# EAGLE library part TH58NVG3S0HBAI4 (library circuit_tree)
IC
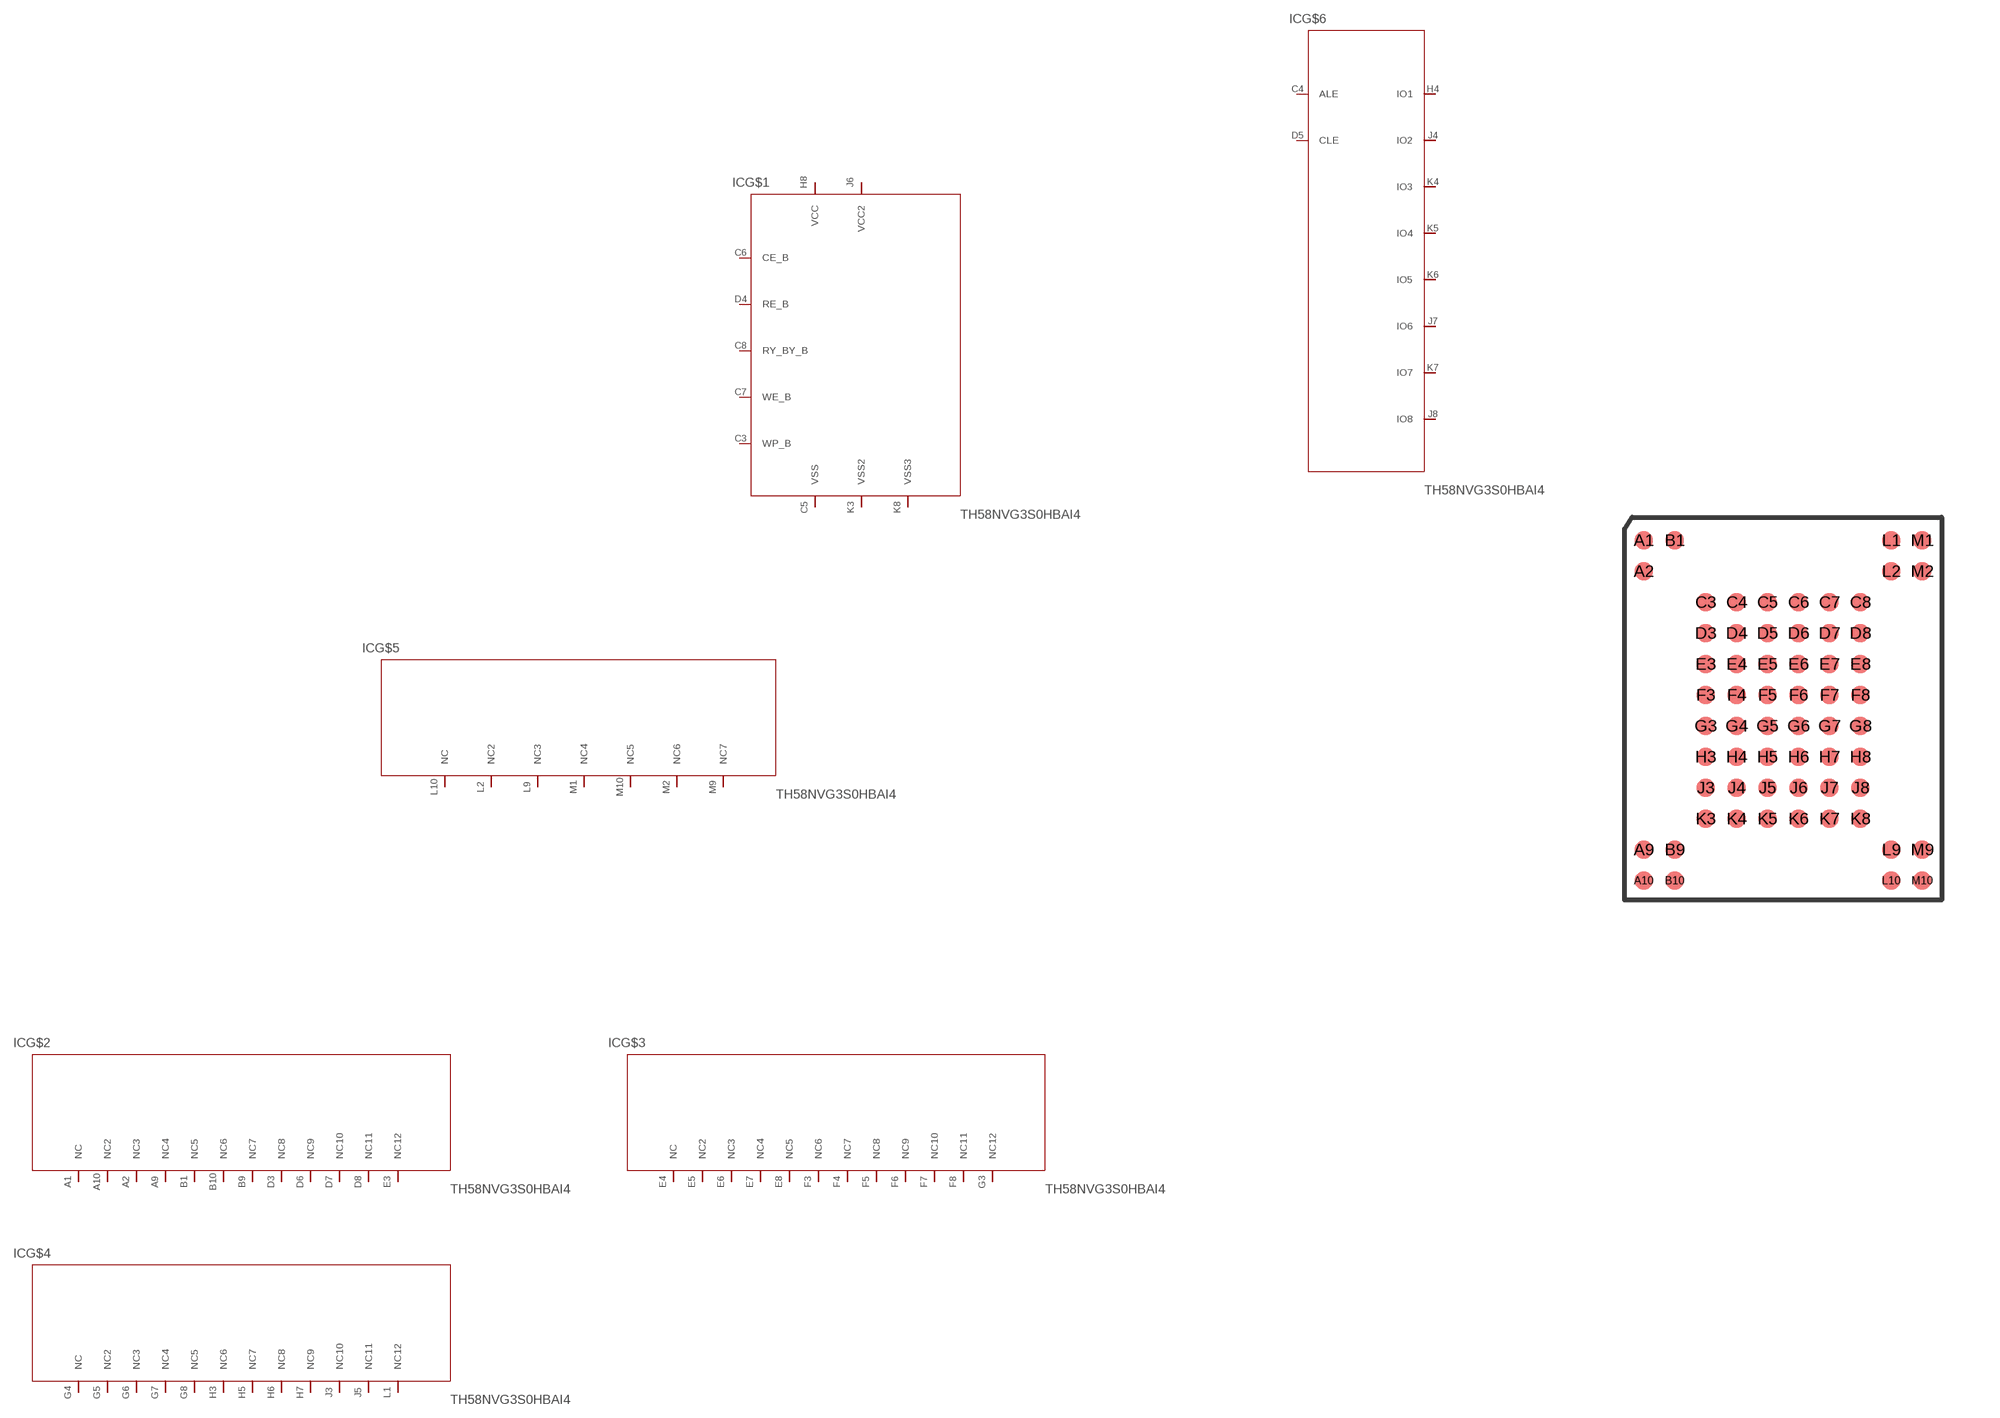
[diagram p9: symbol with the pads of TH58NVG3S0HBAI4; footprint TH58NVG3S0HBAI4]

Designator prefix IC; gates G$1=TH58NVG3S0HBAI4 G$2=TH58NVG3S0HBAI42 G$3=TH58NVG3S0HBAI43 G$4=TH58NVG3S0HBAI44 G$5=TH58NVG3S0HBAI45 G$6=TH58NVG3S0HBAI46

## TH58NVG3S0HBAI4  [TH58NVG3S0HBAI4]
A1  G$2:NC  pas
A2  G$2:NC3  pas
A9  G$2:NC4  pas
A10  G$2:NC2  pas
B1  G$2:NC5  pas
B9  G$2:NC7  pas
B10  G$2:NC6  pas
C3  G$1:WP_B  pas
C4  G$6:ALE  pas
C5  G$1:VSS  pas
C6  G$1:CE_B  pas
C7  G$1:WE_B  pas
C8  G$1:RY_BY_B  pas
D3  G$2:NC8  pas
D4  G$1:RE_B  pas
D5  G$6:CLE  pas
D6  G$2:NC9  pas
D7  G$2:NC10  pas
D8  G$2:NC11  pas
E3  G$2:NC12  pas
E4  G$3:NC  pas
E5  G$3:NC2  pas
E6  G$3:NC3  pas
E7  G$3:NC4  pas
E8  G$3:NC5  pas
F3  G$3:NC6  pas
F4  G$3:NC7  pas
F5  G$3:NC8  pas
F6  G$3:NC9  pas
F7  G$3:NC10  pas
F8  G$3:NC11  pas
G3  G$3:NC12  pas
G4  G$4:NC  pas
G5  G$4:NC2  pas
G6  G$4:NC3  pas
G7  G$4:NC4  pas
G8  G$4:NC5  pas
H3  G$4:NC6  pas
H4  G$6:IO1  pas
H5  G$4:NC7  pas
H6  G$4:NC8  pas
H7  G$4:NC9  pas
H8  G$1:VCC  pas
J3  G$4:NC10  pas
J4  G$6:IO2  pas
J5  G$4:NC11  pas
J6  G$1:VCC2  pas
J7  G$6:IO6  pas
J8  G$6:IO8  pas
K3  G$1:VSS2  pas
K4  G$6:IO3  pas
K5  G$6:IO4  pas
K6  G$6:IO5  pas
K7  G$6:IO7  pas
K8  G$1:VSS3  pas
L1  G$4:NC12  pas
L2  G$5:NC2  pas
L9  G$5:NC3  pas
L10  G$5:NC  pas
M1  G$5:NC4  pas
M2  G$5:NC6  pas
M9  G$5:NC7  pas
M10  G$5:NC5  pas

## Footprint TH58NVG3S0HBAI4 (pad centres in mm)
smd 0.46 x 0.46: A1 -5.6,2.4; A2 -5.6,1.6; A9 -5.6,-5.6; A10 -5.6,-6.4; B1 -4.8,2.4; B9 -4.8,-5.6; B10 -4.8,-6.4; C3 -4,0.8; C4 -3.2,0.8; C5 -2.4,0.8; C6 -1.6,0.8; C7 -0.8,0.8; C8 0,0.8; D3 -4,0; D4 -3.2,0; D5 -2.4,0; D6 -1.6,0; D7 -0.8,0; D8 0,0; E3 -4,-0.8; E4 -3.2,-0.8; E5 -2.4,-0.8; E6 -1.6,-0.8; E7 -0.8,-0.8; E8 0,-0.8; F3 -4,-1.6; F4 -3.2,-1.6; F5 -2.4,-1.6; F6 -1.6,-1.6; F7 -0.8,-1.6; F8 0,-1.6; G3 -4,-2.4; G4 -3.2,-2.4; G5 -2.4,-2.4; G6 -1.6,-2.4; G7 -0.8,-2.4; G8 0,-2.4; H3 -4,-3.2; H4 -3.2,-3.2; H5 -2.4,-3.2; H6 -1.6,-3.2; H7 -0.8,-3.2; H8 0,-3.2; J3 -4,-4; J4 -3.2,-4; J5 -2.4,-4; J6 -1.6,-4; J7 -0.8,-4; J8 0,-4; K3 -4,-4.8; K4 -3.2,-4.8; K5 -2.4,-4.8; K6 -1.6,-4.8; K7 -0.8,-4.8; K8 0,-4.8; L1 0.8,2.4; L2 0.8,1.6; L9 0.8,-5.6; L10 0.8,-6.4; M1 1.6,2.4; M2 1.6,1.6; M9 1.6,-5.6; M10 1.6,-6.4